# EAGLE library part SENS_HUM_HIH913X (library SNWCT_EAGLE_LBR)
SPI Humidity sensor Digikey:480-5707-6-ND
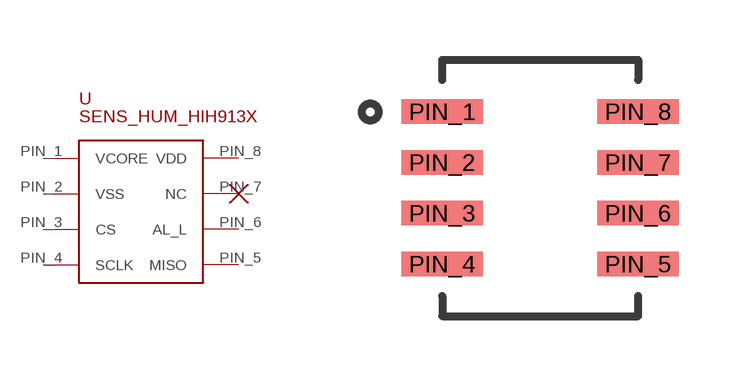
[diagram p0: symbol with the pads of SOIC-8; footprint SOIC-8]

Designator prefix -

## SENS_HUM_HIH913X  [SOIC-8]
PIN_1  VCORE
PIN_2  VSS
PIN_3  CS
PIN_4  SCLK
PIN_5  MISO
PIN_6  AL_L
PIN_7  NC
PIN_8  VDD

## Footprint SOIC-8 (pad centres in mm)
smd 2.03 x 0.61: PIN_1 0,0.01; PIN_2 0,-1.26; PIN_3 0,-2.53; PIN_4 0,-3.8; PIN_5 4.9,-3.8; PIN_6 4.9,-2.53; PIN_7 4.9,-1.26; PIN_8 4.9,0.01